# Altium schematic symbol library 1.Resistors.SchLib: 18 symbols
Pins are listed as number, name and electrical type; pins without a type are passive.

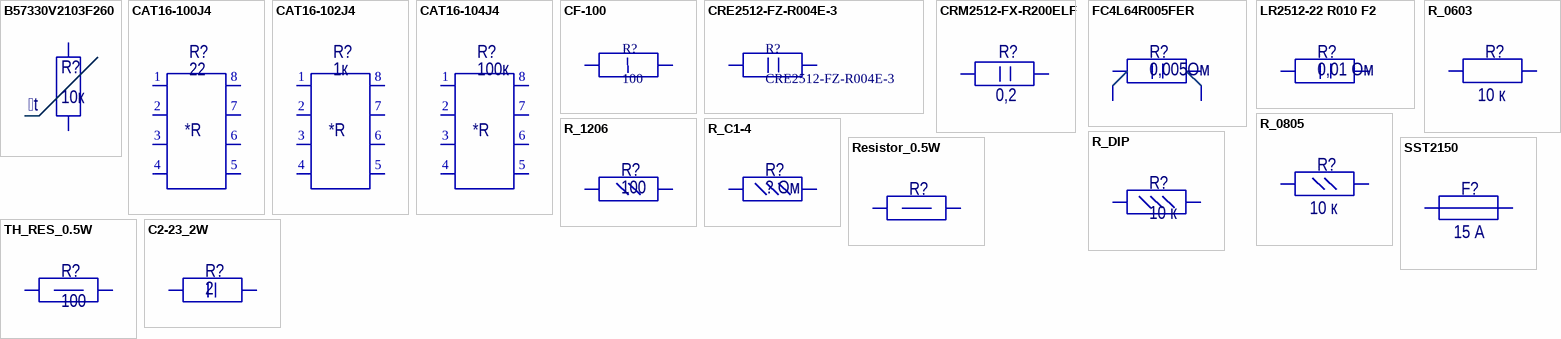
[diagram p0: symbols B57330V2103F260 to С2-23_2W]

## B57330V2103F260
designator R?, comment 10к
footprint BLM18
pins: 1, 2
text: t

## CAT16-100J4
designator R?, comment 22
Сборка резисторная 4х10 Ом 0603
footprint CAT16-F4
pins: 1, 2, 3, 4, 5, 6, 7, 8
text: *R

## CAT16-102J4
designator R?, comment 1к
Сборка резисторная 4х1 кОм 0603
footprint CAT16-F4
pins: 1, 2, 3, 4, 5, 6, 7, 8
text: *R

## CAT16-104J4
designator R?, comment 100к
Сборка резисторная 4х100 кОм 0603
footprint CAT16-F4
pins: 1, 2, 3, 4, 5, 6, 7, 8
text: *R

## CF-100
designator R?, comment 100
footprint CF-100
pins: 1, 2

## CRE2512-FZ-R004E-3
designator R?
footprint R_2512 (Chip Resistor, 2-Leads, Body 6.32x3.20mm, IPC Medium Density)
pins: 1, 2

## CRM2512-FX-R200ELF
designator R?, comment 0,2
pins: 1, 2

## FC4L64R005FER
designator R?, comment 0,005Ом
footprint FC4L64
pins: 1, 2, 3, 4

## LR2512-22 R010 F2
designator R?, comment 0,01 Ом
footprint R-2512 (Chip Resistor, 2-Leads, Body 6.32x3.20mm, IPC Medium Density)
pins: 1, 2

## R_0603
designator R?, comment 10 к
footprint R_0603 (Chip Resistor, 2-Leads, Body 1.60x0.80mm, IPC Medium Density)
pins: 1, 2

## R_0805
designator R?, comment 10 к
footprint R_0805 (Chip Resistor, 2-Leads, Body 2,10x1,30mm, IPC Medium Density)
pins: 1, 2

## R_1206
designator R?, comment 100
footprint R_1206 (Footprint not found)
pins: 1, 2

## R_C1-4
designator R?, comment ? Ом
footprint С1-4 (С2-33(Н)-0,125; ОМЛТ-0,125; C2-10-0,125 // Масса 0,15 г // Трубка ТВ-40,2 белая высшего сорта ГОСТ 19034-82; UMI)
footprint R_C1-4_V
pins: 1, 2

## R_DIP
designator R?, comment 10 к
footprint D2.2L6.0[Z001-01] (С2-33(Н)-0,125; ОМЛТ-0,125; C2-10-0,125 // Масса 0,15 г // Трубка ТВ-40,2 белая высшего сорта ГОСТ 19034-82; UMI)
pins: 1, 2

## Resistor_0.5W
designator R?  (value not drawn)
footprint R_1210
pins: 1, 2

## SST2150
designator F?, comment 15 A
footprint SST2150
pins: 1, 2

## TH_RES_0.5W
designator R?, comment 100
footprint TH_RES_0.5W
pins: 1, 2

## С2-23_2W
designator R?, comment 2
footprint С2-23_2W
footprint С2-23_2W_R
pins: 1, 2